# EAGLE library part LMR16020 (library IC, Buck Controller - LM2678, LM2576, LMR16020)
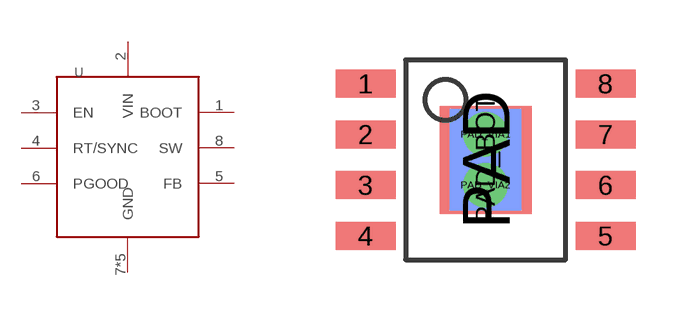
[diagram p1: symbol with the pads of 8-SOIC-EP; footprint 8-SOIC-EP]

Designator prefix U

## LMR16020  [8-SOIC-EP]
1  BOOT  pas
2  VIN  pwr
3  EN  in
4  RT/SYNC  in
5  FB  in
6  PGOOD  out
7  GND  pwr
8  SW  out
PAD  GND  pwr
PAD_BOT  GND  pwr
PAD_VIA1  GND  pwr
PAD_VIA2  GND  pwr

## Footprint 8-SOIC-EP (pad centres in mm)
smd 1.5 x 0.7: 1 -3,1.905; 2 -3,0.635; 3 -3,-0.635; 4 -3,-1.905; 5 3,-1.905; 6 3,-0.635; 7 3,0.635; 8 3,1.905
smd 2.3 x 2.7: PAD 0,0
smd 1.778 x 2.54 bottom: PAD_BOT 0,0
drill 0.6: PAD_VIA1 0,0.635; PAD_VIA2 0,-0.635